# EAGLE library part OLIMEX_DISCRET_R_MATRIX_4E (library iMX233-OLINUXINO-MINI_Rev_C)
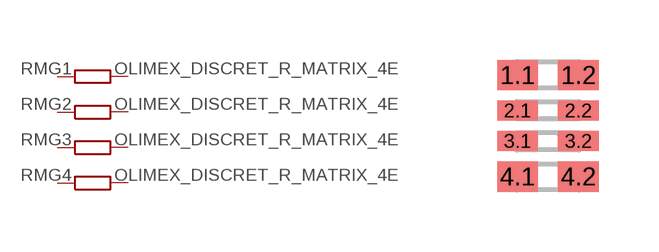
[diagram p3: symbol with the pads of OLIMEX_DISCRET_R_MATRIX_4; footprint OLIMEX_DISCRET_R_MATRIX_4]

Designator prefix RM; gates G1=OLIMEX_DISCRET_R_MARTIX G2=OLIMEX_DISCRET_R_MARTIX G3=OLIMEX_DISCRET_R_MARTIX G4=OLIMEX_DISCRET_R_MARTIX

## OLIMEX_DISCRET_R_MATRIX_4E  [OLIMEX_DISCRET_R_MATRIX_4]
1.1  G1:1  pas
1.2  G1:2  pas
2.1  G2:1  pas
2.2  G2:2  pas
3.1  G3:1  pas
3.2  G3:2  pas
4.1  G4:1  pas
4.2  G4:2  pas

## Footprint OLIMEX_DISCRET_R_MATRIX_4 (pad centres in mm)
smd 1.016 x 0.762: 1.1 -0.762,1.27; 1.2 0.762,1.27; 4.1 -0.762,-1.27; 4.2 0.762,-1.27
smd 1.016 x 0.508: 2.1 -0.762,0.381; 2.2 0.762,0.381; 3.1 -0.762,-0.381; 3.2 0.762,-0.381